# Altium footprint library Solin.PcbLib: 19 footprints (part 2 of 2)
Each footprint in its own frame and in the unit in brackets; x right, y up, seen from the top. Pads: shape width x height; smd on the part's side, far side on the other; paste and mask are expansions set on the pad; w line width, h text height; cw(c..) or ccw(c..) is an arc to the next point about the centre after c.
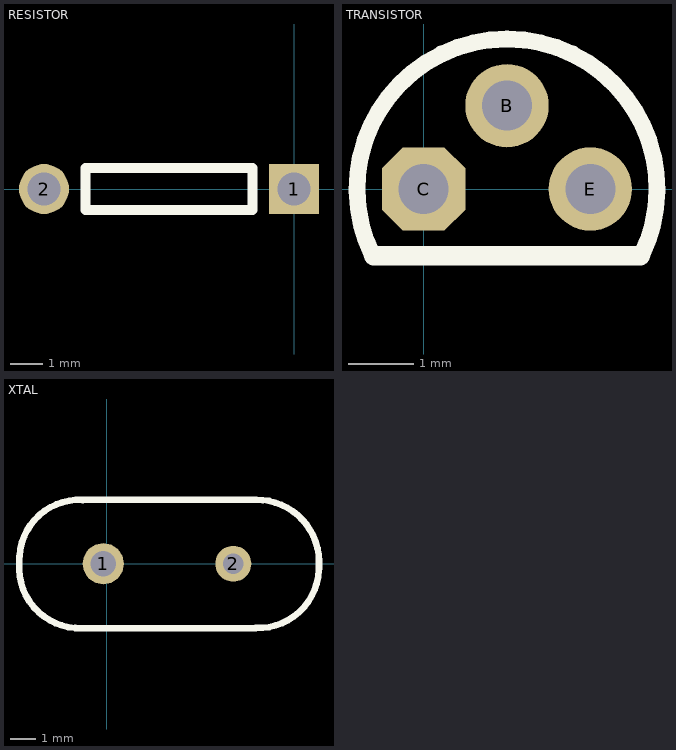
[diagram p1: the footprints below, top view; thin cyan lines are the x and y axes]

## RESISTOR [mil]
pads (2):
  rect 60x60 hole 40: 1(0,0)
  round 60 hole 40: 2(-300,0)
Top Overlay:
  lines w11.81: -250,-25 -50,-25 -50,25 -250,25 -250,-25

## TRANSISTOR [mil]
pads (3):
  round 50 hole 30: B(50,50) E(100,0)
  oct 50x50 hole 30: C(0,0)
Top Overlay:
  lines w10: -30.5,-40.25 cw(c50,0) 130.5,-40.25
  lines w11.81: -30,-40 130,-40

## XTAL [mm]
pads (2):
  round 1.6 hole 1: 1(-0.127,0)
  round 1.4 hole 0.8: 2(4.931,0)
Top Overlay:
  lines w0.254: -3.405,-0.225 ccw(c-1.04,-0.14) -0.955,-2.505 5.775,-2.51 ; -3.4,-0.175 -3.4,0.3 ; -3.385,0.3 cw(c-1.07,0.165) -0.935,2.48 ; -0.915,2.485 5.77,2.485 ; 5.805,-2.5 ccw(c5.9,-0.145) 8.255,-0.24 ; 5.815,2.49 cw(c5.84,0.065) 8.265,0.09 8.265,-0.195
3D body: height 3.6, standoff -3, extent -3.045,-2.265 7.935,2.226